# Altium footprint library Connector_FFC-FPC.PcbLib: 372 footprints (part 24 of 24)
Each footprint in its own frame and in the unit in brackets; x right, y up, seen from the top. Pads: shape width x height; smd on the part's side, far side on the other; paste and mask are expansions set on the pad; w line width, h text height; cw(c..) or ccw(c..) is an arc to the next point about the centre after c.
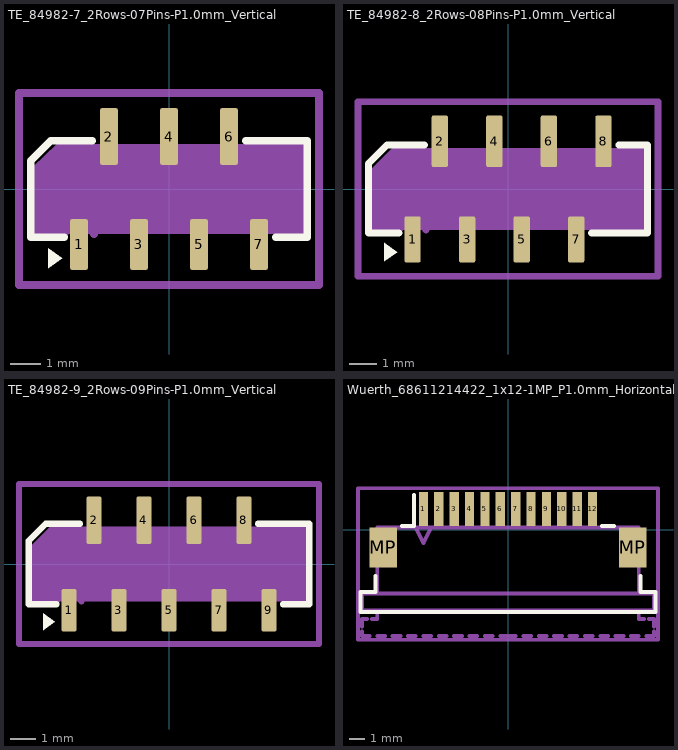
[diagram p23: the footprints below, top view; thin cyan lines are the x and y axes]

## TE_84982-7_2Rows-07Pins-P1.0mm_Vertical [mm]
pads (7):
  rrect25% 0.6x1.7 smd: 1(-3,-1.85) 3(-1,-1.85) 5(1,-1.85) 7(3,-1.85)
  rrect25% 0.6x1.9 smd: 2(-2,1.75) 4(0,1.75) 6(2,1.75)
F.SilkS:
  region: -3.56,-2.31 -4.03,-2.65 -4.03,-1.97
  lines w0.254: -3.5,-1.61 -4.61,-1.61 -4.61,0.934 -3.934,1.61 -2.56,1.61 ; 2.56,1.61 4.61,1.61 4.61,-1.61 3.56,-1.61
Top Assembly:
  region: 4.5,-1.5 -4.5,-1.5 -4.5,0.75 -3.75,1.5 4.5,1.5
  lines w0.254: -3.5,-1.5 -3,-0.7 -2.5,-1.5
  text "'.Designator'" at -4.047,-0.84 h1
Top Courtyard:
  lines w0.254: -5,-3.2 5,-3.2 5,3.2 -5,3.2 -5,-3.2
Top Designator:
  text ".Designator" at -7.618,-0.508 h1.52

## TE_84982-8_2Rows-08Pins-P1.0mm_Vertical [mm]
pads (8):
  rrect25% 0.6x1.7 smd: 1(-3.5,-1.85) 3(-1.5,-1.85) 5(0.5,-1.85) 7(2.5,-1.85)
  rrect25% 0.6x1.9 smd: 2(-2.5,1.75) 4(-0.5,1.75) 6(1.5,1.75) 8(3.5,1.75)
F.SilkS:
  region: -4.06,-2.31 -4.53,-2.65 -4.53,-1.97
  lines w0.254: -4,-1.61 -5.11,-1.61 -5.11,0.934 -4.434,1.61 -3.06,1.61 ; 3.06,-1.61 5.11,-1.61 5.11,1.61 4.06,1.61
Top Assembly:
  region: 5,-1.5 -5,-1.5 -5,0.75 -4.25,1.5 5,1.5
  lines w0.254: -4,-1.5 -3.5,-0.7 -3,-1.5
  text "'.Designator'" at -4.047,-0.84 h1
Top Courtyard:
  lines w0.254: -5.5,-3.2 5.5,-3.2 5.5,3.2 -5.5,3.2 -5.5,-3.2
Top Designator:
  text ".Designator" at -7.618,-0.508 h1.52

## TE_84982-9_2Rows-09Pins-P1.0mm_Vertical [mm]
pads (9):
  rrect25% 0.6x1.7 smd: 1(-4,-1.85) 3(-2,-1.85) 5(0,-1.85) 7(2,-1.85) 9(4,-1.85)
  rrect25% 0.6x1.9 smd: 2(-3,1.75) 4(-1,1.75) 6(1,1.75) 8(3,1.75)
F.SilkS:
  region: -4.56,-2.31 -5.03,-2.65 -5.03,-1.97
  lines w0.254: -4.5,-1.61 -5.61,-1.61 -5.61,0.934 -4.934,1.61 -3.56,1.61 ; 3.56,1.61 5.61,1.61 5.61,-1.61 4.56,-1.61
Top Assembly:
  region: 5.5,-1.5 -5.5,-1.5 -5.5,0.75 -4.75,1.5 5.5,1.5
  lines w0.254: -4.5,-1.5 -4,-0.7 -3.5,-1.5
  text "'.Designator'" at -4.047,-0.84 h1
Top Courtyard:
  lines w0.254: -6,-3.2 6,-3.2 6,3.2 -6,3.2 -6,-3.2
Top Designator:
  text ".Designator" at -7.618,-0.508 h1.52

## Wuerth_68611214422_1x12-1MP_P1.0mm_Horizontal [mm]
pads (14):
  rect 0.6x2.2 smd: 1(-5.5,1.35) 2(-4.5,1.35) 3(-3.5,1.35) 4(-2.5,1.35) 5(-1.5,1.35) 6(-0.5,1.35) 7(0.5,1.35) 8(1.5,1.35) 9(2.5,1.35) 10(3.5,1.35) 11(4.5,1.35) 12(5.5,1.35)
  rect 1.8x2.6 smd: MP(-8.1,-1.15) MP(8.1,-1.15)
F.SilkS:
  lines w0.254: -8.6,-3 -8.6,-4.05 -9.6,-4.05 -9.6,-5.35 9.6,-5.35 9.6,-4.05 8.6,-4.05 8.6,-3 ; -6.9,0.25 -6.1,0.25 -6.1,2.25 ; 6.1,0.25 6.9,0.25
Top Assembly:
  lines w0.254: -9.5,-6.6 -9.5,-6.9 -9,-6.9 ; -9.5,-6.3 -9.5,-5.8 -9.15,-5.8 ; -9.5,-4.16 -9.5,-5.25 9.5,-5.25 9.5,-4.16 ; -9.5,-4.15 9.5,-4.15 ; -8.85,-5.8 -8.5,-5.8 -8.5,-5.25 ; -8.5,-6.9 -8,-6.9 ; -8.5,-4.15 -8.5,0.15 8.5,0.15 8.5,-4.15 ; -7.5,-6.9 -7,-6.9 ; -6.5,-6.9 -6,-6.9 ; -6,0.15 -5.5,-0.85 -5,0.15 ; -5.5,-6.9 -5,-6.9 ; -4.5,-6.9 -4,-6.9 ; -3.5,-6.9 -3,-6.9 ; -2.5,-6.9 -2,-6.9 ; -1.5,-6.9 -1,-6.9 ; -0.5,-6.9 -0.1,-6.9 ; 0.1,-6.9 0.5,-6.9 ; 1,-6.9 1.5,-6.9 ; 2,-6.9 2.5,-6.9 ; 3,-6.9 3.5,-6.9 ; 4,-6.9 4.5,-6.9 ; 5,-6.9 5.5,-6.9 ; 6,-6.9 6.5,-6.9 ; 7,-6.9 7.5,-6.9 ; 8,-6.9 8.5,-6.9 ; 8.5,-5.25 8.5,-5.8 8.85,-5.8 ; 9,-6.9 9.5,-6.9 9.5,-6.6 ; 9.15,-5.8 9.5,-5.8 9.5,-6.3
  text "'.Designator'" at -4.047,-3.19 h1
Top Courtyard:
  lines w0.254: -9.75,-7.15 9.75,-7.15 9.75,2.7 -9.75,2.7 -9.75,-7.15
Top Designator:
  text ".Designator" at -7.618,-2.733 h1.52